# Altium footprint library 796642-6.PcbLib: 1 footprints
Each footprint in its own frame and in the unit in brackets; x right, y up, seen from the top. Pads: shape width x height; smd on the part's side, far side on the other; paste and mask are expansions set on the pad; w line width, h text height; cw(c..) or ccw(c..) is an arc to the next point about the centre after c.
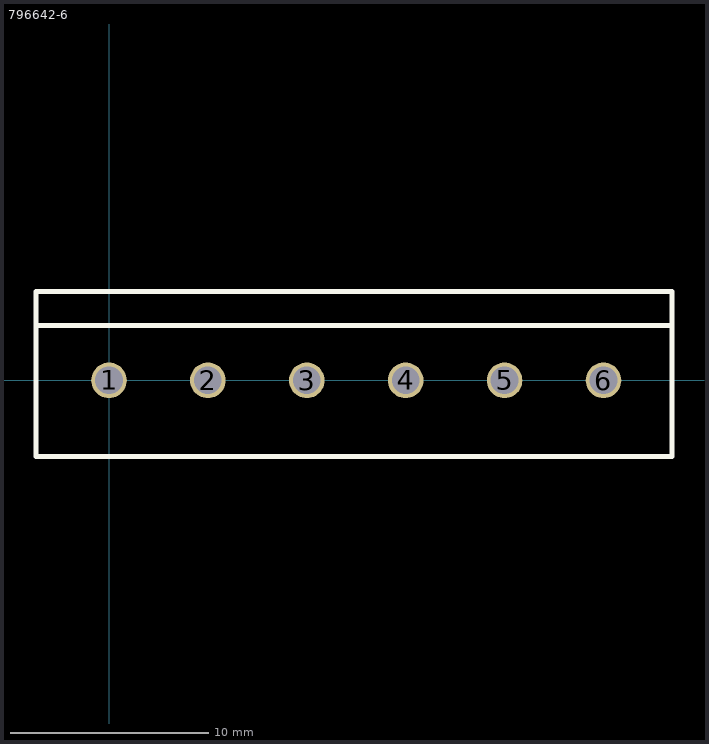
[diagram p0: the footprint, top view; thin cyan lines are the x and y axes]

## 796642-6 [mm] "6pos Eurostyle (Phoenix) terminal block header"
pads (6):
  round 1.8 hole 1.4: 1(0,0) 2(5,0) 3(10,0) 4(15,0) 5(20,0) 6(25,0)
Top Overlay:
  lines w0.254: -3.7,2.769 28.448,2.769 ; -3.7,-3.861 -3.7,4.5 28.473,4.5 28.473,-3.861 -3.7,-3.861
3D body: height 12, standoff -3.5, extent -3.706,-3.85 28.293,4.5